# Altium schematic symbol library 0900PC15J0013.Schlib: 1 symbol
Pins are listed as number, name and electrical type; pins without a type are passive.

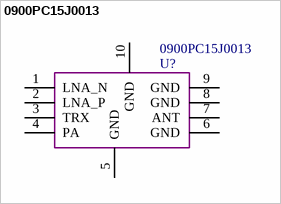
[diagram p0: symbol 0900PC15J0013]

## 0900PC15J0013
designator U?
pins: 1 LNA_N, 2 LNA_P, 3 TRX, 4 PA, 5 GND, 6 GND, 7 ANT, 8 GND, 9 GND, 10 GND